# EAGLE library part ATMEGA48A-GROUPED (library 000-ece411)
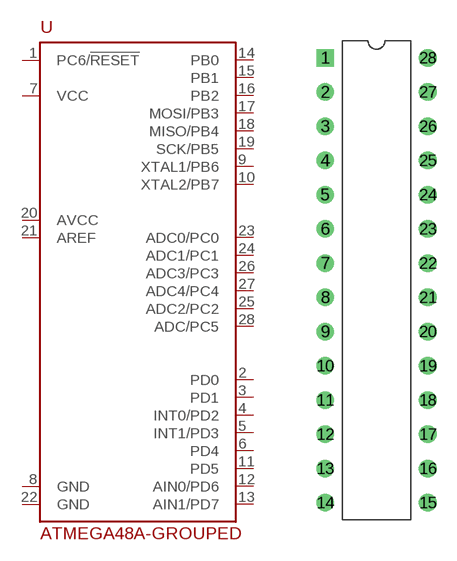
[diagram p6: symbol with the pads of DIP28; footprint DIP28]

Designator prefix U

## ATMEGA48A-GROUPED  [DIP28]
1  PC6/!RESET!
2  PD0
3  PD1
4  INT0/PD2
5  INT1/PD3
6  PD4
7  VCC
8  GND
9  XTAL1/PB6
10  XTAL2/PB7
11  PD5
12  AIN0/PD6
13  AIN1/PD7
14  PB0
15  PB1
16  PB2
17  MOSI/PB3
18  MISO/PB4
19  SCK/PB5
20  AVCC
21  AREF
22  GND
23  ADC0/PC0
24  ADC1/PC1
25  ADC2/PC2
26  ADC3/PC3
27  ADC4/PC4
28  ADC/PC5

## Footprint DIP28 (pad centres in mm)
drill 0.8 square: 1 0,0
drill 0.8 round: 2 0,-2.54; 3 0,-5.08; 4 0,-7.62; 5 0,-10.16; 6 0,-12.7; 7 0,-15.24; 8 0,-17.78; 9 0,-20.32; 10 0,-22.86; 11 0,-25.4; 12 0,-27.94; 13 0,-30.48; 14 0,-33.02; 15 7.62,-33.02; 16 7.62,-30.48; 17 7.62,-27.94; 18 7.62,-25.4; 19 7.62,-22.86; 20 7.62,-20.32; 21 7.62,-17.78; 22 7.62,-15.24; 23 7.62,-12.7; 24 7.62,-10.16; 25 7.62,-7.62; 26 7.62,-5.08; 27 7.62,-2.54; 28 7.62,0